# Altium integrated library RL1632S-R043-F.IntLib: 1 symbol
Pins are listed as number, name and electrical type; pins without a type are passive.

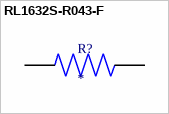
[diagram p0: symbol RL1632S-R043-F]

## RL1632S-R043-F
designator R?
43 mOhms Â±1% 0.5W, 1/2W Chip Resistor 1206 (3216 Metric) Current Sense Thin Film; MF: Susumu; MP: RL1632S-R043-F; Package: 3216 Susumu; Value: *; Availability: Warning; Check_prices: https://www.snapeda.com/parts/RL1632S-R043-F/Susumu/view-part/1059584/?ref=eda; SnapEDA_Link: https://www.snapeda.com/parts/RL1632S-R043-F/Susumu/view-part/1059584/?ref=snap; Price: None; Purchase-URL: https://pricing.snapeda.com/search/part/RL1632S-R043-F/?ref=eda
footprint RESC3216X65N
pins: 1, 2